# Altium schematic symbol library FLOM_Converter.SchLib: 4 symbols
Pins are listed as number, name and electrical type; pins without a type are passive.

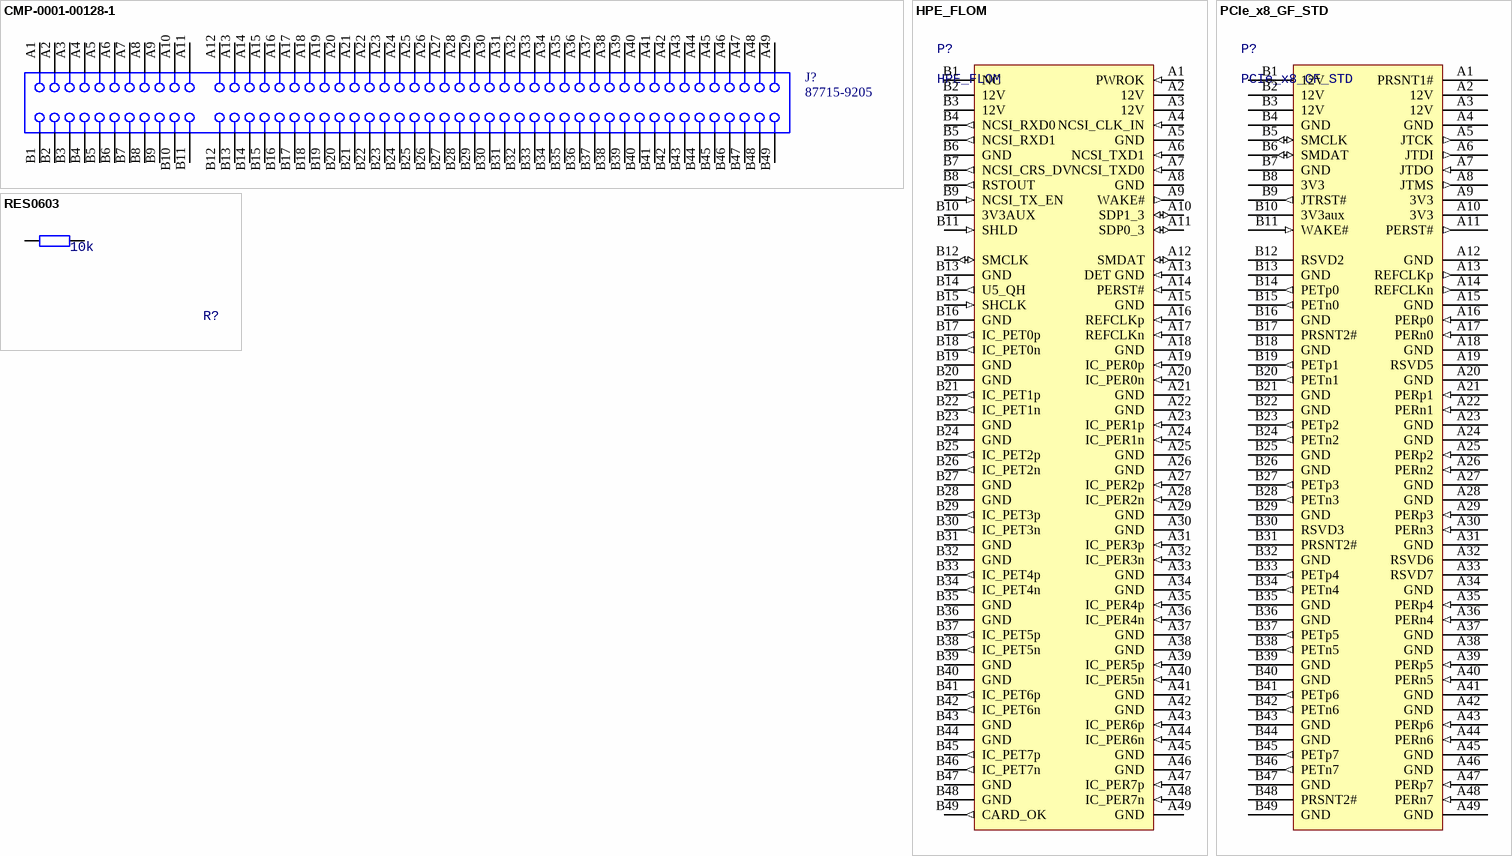
[diagram p0: symbols CMP-0001-00128-1 to RES0603]

## CMP-0001-00128-1
designator J?, comment 87715-9205
Board-to-Board Connector, PTH, Vertical, Pitch 1.00mm, 98-Position; Mating Connector: PCIeX8-GF-2D-1000-1K-O98; Datasheet Version: Jul-2007; ClassName: Board Template Connector; Component Kind: Standard; Publisher: Altium; Package Reference: BTB1-00-2V98
footprint BTB1-00-2V98 (Board-to-Board Connector, PTH, Vertical, Pitch 1.00mm, 98-Position)
pins: A1, A2, A3, A4, A5, A6, A7, A8, A9, A10, A11, A12, A13, A14, A15, A16, A17, A18, A19, A20, A21, A22, A23, A24, A25, A26, A27, A28, A29, A30, A31, A32, A33, A34, A35, A36, A37, A38, A39, A40, A41, A42, A43, A44, A45, A46, A47, A48, A49, B1, B2, B3, B4, B5, B6, B7, B8, B9, B10, B11, B12, B13, B14, B15, B16, B17, B18, B19, B20, B21, B22, B23, B24, B25, B26, B27, B28, B29, B30, B31, B32, B33, B34, B35, B36, B37, B38, B39, B40, B41, B42, B43, B44, B45, B46, B47, B48, B49

## HPE_FLOM
designator P?
footprint HPE_FLOM_Card (HPE FlexibleLOM Card with standard PCIe Bracket)
pins: A1 PWROK (in), A2 12V (power), A3 12V (power), A4 NCSI_CLK_IN (in), A5 GND (power), A6 NCSI_TXD1 (in), A7 NCSI_TXD0 (in), A8 GND (power), A9 WAKE# (out), A10 SDP1_3 (io), A11 SDP0_3 (io), A12 SMDAT (io), A13 DET GND (in), A14 PERST# (in), A15 GND (power), A16 REFCLKp (in), A17 REFCLKn (in), A18 GND (power), A19 IC_PER0p (in), A20 IC_PER0n (in), A21 GND (power), A22 GND (power), A23 IC_PER1p (in), A24 IC_PER1n (in), A25 GND (power), A26 GND (power), A27 IC_PER2p (in), A28 IC_PER2n (in), A29 GND (power), A30 GND (power), A31 IC_PER3p (in), A32 IC_PER3n (in), A33 GND (power), A34 GND (power), A35 IC_PER4p (in), A36 IC_PER4n (in), A37 GND (power), A38 GND (power), A39 IC_PER5p (in), A40 IC_PER5n (in), A41 GND (power), A42 GND (power), A43 IC_PER6p (in), A44 IC_PER6n (in), A45 GND (power), A46 GND (power), A47 IC_PER7p (in), A48 IC_PER7n (in), A49 GND (power), B1 NC, B2 12V (power), B3 12V (power), B4 NCSI_RXD0 (out), B5 NCSI_RXD1 (out), B6 GND (power), B7 NCSI_CRS_DV (out), B8 RSTOUT (out), B9 NCSI_TX_EN (in), B10 3V3AUX (power), B11 SHLD (in), B12 SMCLK (io), B13 GND (power), B14 U5_QH (out), B15 SHCLK (in), B16 GND (power), B17 IC_PET0p (out), B18 IC_PET0n (out), B19 GND (power), B20 GND (power), B21 IC_PET1p (out), B22 IC_PET1n (out), B23 GND (power), B24 GND (power), B25 IC_PET2p (out), B26 IC_PET2n (out), B27 GND (power), B28 GND (power), B29 IC_PET3p (out), B30 IC_PET3n (out), B31 GND (power), B32 GND (power), B33 IC_PET4p (out), B34 IC_PET4n (out), B35 GND (power), B36 GND (power), B37 IC_PET5p (out), B38 IC_PET5n (out), B39 GND (power), B40 GND (power), B41 IC_PET6p (out), B42 IC_PET6n (out), B43 GND (power), B44 GND (power), B45 IC_PET7p (out), B46 IC_PET7n (out), B47 GND (power), B48 GND (power), B49 CARD_OK (out)

## PCIe_x8_GF_STD
designator P?
footprint PCIe_x8_GF_STD (PCIe x8 Gold Finger Standard Length)
pins: A1 PRSNT1#, A2 12V (power), A3 12V (power), A4 GND (power), A5 JTCK (out), A6 JTDI (out), A7 JTDO (in), A8 JTMS (out), A9 3V3 (power), A10 3V3 (power), A11 PERST# (out), A12 GND (power), A13 REFCLKp (out), A14 REFCLKn (out), A15 GND (power), A16 PERp0 (in), A17 PERn0 (in), A18 GND (power), A19 RSVD5, A20 GND (power), A21 PERp1 (in), A22 PERn1 (in), A23 GND (power), A24 GND (power), A25 PERp2 (in), A26 PERn2 (in), A27 GND (power), A28 GND (power), A29 PERp3 (in), A30 PERn3 (in), A31 GND (power), A32 RSVD6, A33 RSVD7, A34 GND (power), A35 PERp4 (in), A36 PERn4 (in), A37 GND (power), A38 GND (power), A39 PERp5 (in), A40 PERn5 (in), A41 GND (power), A42 GND (power), A43 PERp6 (in), A44 PERn6 (in), A45 GND (power), A46 GND (power), A47 PERp7 (in), A48 PERn7 (in), A49 GND (power), B1 12V (power), B2 12V (power), B3 12V (power), B4 GND (power), B5 SMCLK (io), B6 SMDAT (io), B7 GND (power), B8 3V3 (power), B9 JTRST# (out), B10 3V3aux (power), B11 WAKE# (in), B12 RSVD2, B13 GND (power), B14 PETp0 (out), B15 PETn0 (out), B16 GND (power), B17 PRSNT2#, B18 GND (power), B19 PETp1 (out), B20 PETn1 (out), B21 GND (power), B22 GND (power), B23 PETp2 (out), B24 PETn2 (out), B25 GND (power), B26 GND (power), B27 PETp3 (out), B28 PETn3 (out), B29 GND (power), B30 RSVD3, B31 PRSNT2#, B32 GND (power), B33 PETp4 (out), B34 PETn4 (out), B35 GND (power), B36 GND (power), B37 PETp5 (out), B38 PETn5 (out), B39 GND (power), B40 GND (power), B41 PETp6 (out), B42 PETn6 (out), B43 GND (power), B44 GND (power), B45 PETp7 (out), B46 PETn7 (out), B47 GND (power), B48 PRSNT2#, B49 GND (power)

## RES0603
designator R?  value 10k  (hidden comment: RES0603)
SMD Resistor 1.6x0.8mm
footprint RES0603 (Chip Resistor, 2-Leads, Body 1.60x0.80mm, IPC Medium Density)
pins: 1, 2